# Altium footprint library Passive.PcbLib: 87 footprints (part 1 of 6)
Each footprint in its own frame and in the unit in brackets; x right, y up, seen from the top. Pads: shape width x height; smd on the part's side, far side on the other; paste and mask are expansions set on the pad; w line width, h text height; cw(c..) or ccw(c..) is an arc to the next point about the centre after c.
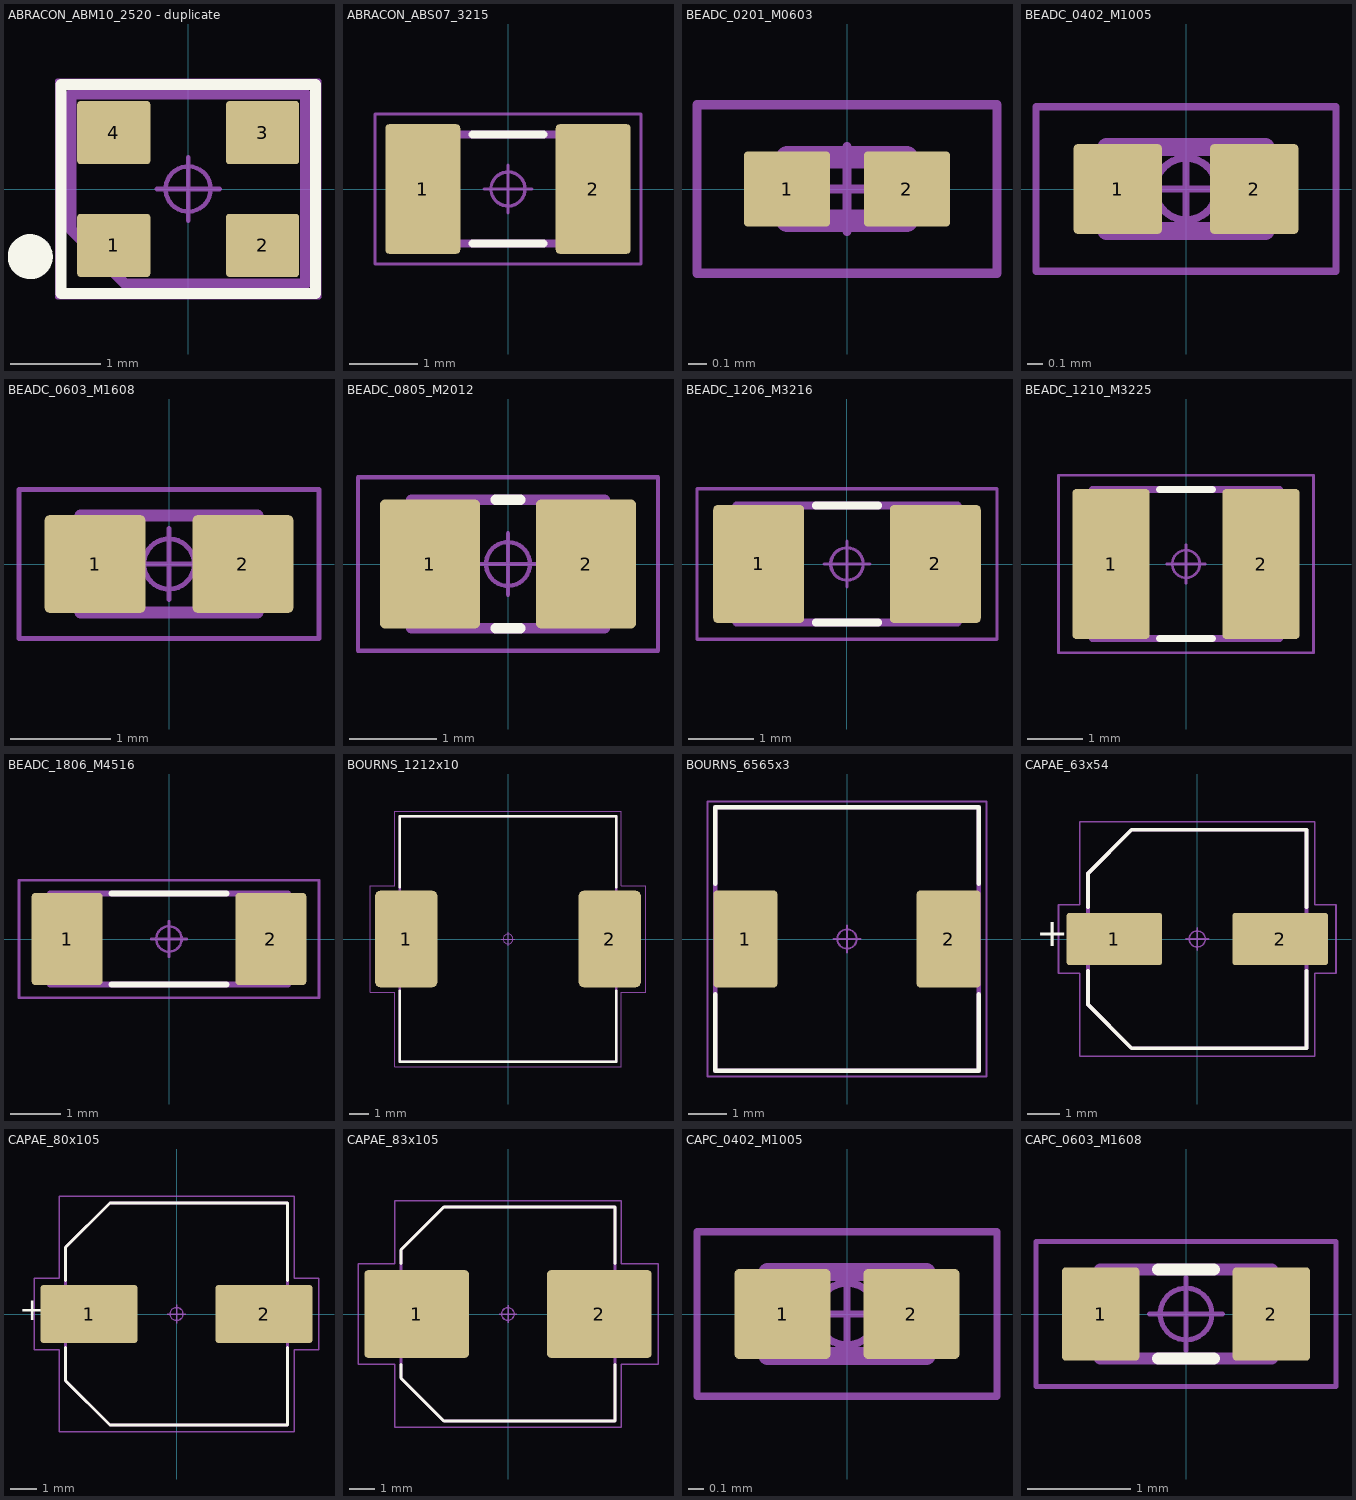
[diagram p0: the footprints below, top view; thin cyan lines are the x and y axes]

## ABRACON_ABM10_2520 - duplicate [mm] "Crystal, Dual Flat No-Lead (DFN 4 Pins), 1.65 mm pitch; 4 pin, 2.50 mm L X 2.00 mm W X 0.70 mm H body"
pads (4):
  rrect10% 0.81x0.7 smd: 1(-0.825,-0.625) 2(0.825,-0.625) 3(0.825,0.625) 4(-0.825,0.625)
Top Overlay:
  circle w0.25: c-1.75,-0.75 r0.125
  lines w0.12: -1.41,-1.16 1.41,-1.16 1.41,1.16 -1.41,1.16 -1.41,-1.16
Mechanical 11:
  lines w0.12: -1.3,-0.45 -1.3,1.05 1.3,1.05 1.3,-1.05 -0.7,-1.05 -1.3,-0.45
  text ".Designator" at -2.253,-0.226 h1
Mechanical 15:
  circle w0.05: c0,0 r0.25
  lines w0.05: -0.35,0 0.35,0 ; 0,-0.35 0,0.35 ; -1.45,-1.2 1.45,-1.2 1.45,1.2 -1.45,1.2 -1.45,-1.2
3D body "User Library-ABM10_Xtal.step": height 0.7, standoff -0.01, extent -1.3,-1.05 1.3,1.05

## ABRACON_ABS07_3215 [mm] "Crystal, Dual Flat No-Lead (DFN 2 Pin); 2 pin, 3.20 mm L X 1.50 mm W X 0.90 mm H body"
pads (2):
  rrect10% 1.1x1.9 smd: 1(-1.25,0) 2(1.25,0)
Top Overlay:
  lines w0.12: -0.52,-0.8 0.52,-0.8 ; -0.52,0.8 0.52,0.8
Mechanical 11:
  lines w0.12: -1.65,-0.8 -1.65,0.8 1.65,0.8 1.65,-0.8 -1.65,-0.8
  text ".Designator" at -2.253,-0.226 h1
Mechanical 15:
  circle w0.05: c0,0 r0.25
  lines w0.05: -0.35,0 0.35,0 ; 0,-0.35 0,0.35 ; -1.95,-1.1 -1.95,1.1 1.95,1.1 1.95,-1.1 -1.95,-1.1
3D body "ABRACON_ABS07.STEP": height 0.9, standoff 0, extent -1.65,-0.8 1.65,0.8

## BEADC_0201_M0603 [mm] "Ferrite Bead, Chip; 0.60 mm L X 0.30 mm W X 0.33 mm H body"
pads (2):
  rrect10% 0.46x0.4 smd: 1(-0.32,0) 2(0.32,0)
Mechanical 11:
  lines w0.12: -0.32,-0.17 0.32,-0.17 0.32,0.17 -0.32,0.17 -0.32,-0.17
Mechanical 15:
  circle w0.05: c0,0 r0.169
  lines w0.05: -0.225,0 0.225,0 ; 0,-0.225 0,0.225 ; -0.8,-0.45 0.8,-0.45 0.8,0.45 -0.8,0.45 -0.8,-0.45
3D body "BEADC_0201_M0603.STEP": height 0.33, standoff 0, extent -0.315,-0.165 0.315,0.165

## BEADC_0402_M1005 [mm] "Ferrite Bead, Chip; 1.00 mm L X 0.50 mm W X 0.55 mm H body"
pads (2):
  rrect10% 0.59x0.6 smd: 1(-0.455,0) 2(0.455,0)
Mechanical 11:
  lines w0.12: -0.53,-0.28 0.53,-0.28 0.53,0.28 -0.53,0.28 -0.53,-0.28
  text ".Designator" at -1.126,-0.113 h0.5
Mechanical 15:
  circle w0.05: c0,0 r0.206
  lines w0.05: -0.275,0 0.275,0 ; 0,-0.275 0,0.275 ; -1,-0.55 1,-0.55 1,0.55 -1,0.55 -1,-0.55
3D body "BEADC_0402_M1005.STEP": height 0.55, standoff 0, extent -0.525,-0.275 0.525,0.275

## BEADC_0603_M1608 [mm] "Ferrite Bead, Chip; 1.60 mm L X 0.80 mm W X 0.95 mm H body"
pads (2):
  rrect10% 1x0.97 smd: 1(-0.735,0) 2(0.735,0)
Mechanical 11:
  lines w0.12: -0.88,-0.48 0.88,-0.48 0.88,0.48 -0.88,0.48 -0.88,-0.48
  text ".Designator" at -2.253,-0.226 h1
Mechanical 15:
  circle w0.05: c0,0 r0.25
  lines w0.05: -0.35,0 0.35,0 ; 0,-0.35 0,0.35 ; -1.49,-0.74 1.49,-0.74 1.49,0.74 -1.49,0.74 -1.49,-0.74
3D body "BEADC_0603_M1608.STEP": height 0.95, standoff 0, extent -0.875,-0.475 0.875,0.475

## BEADC_0805_M2012 [mm] "Ferrite Bead, Chip; 2.00 mm L X 1.25 mm W X 1.45 mm H body"
pads (2):
  rrect10% 1.14x1.47 smd: 1(-0.89,0) 2(0.89,0)
Top Overlay:
  lines w0.12: -0.14,-0.73 0.14,-0.73 ; -0.14,0.73 0.14,0.73
Mechanical 11:
  lines w0.12: -1.1,-0.73 1.1,-0.73 1.1,0.73 -1.1,0.73 -1.1,-0.73
  text ".Designator" at -2.253,-0.226 h1
Mechanical 15:
  circle w0.05: c0,0 r0.25
  lines w0.05: -0.35,0 0.35,0 ; 0,-0.35 0,0.35 ; -1.71,-0.99 1.71,-0.99 1.71,0.99 -1.71,0.99 -1.71,-0.99
3D body "BEADC_0805_M2012.STEP": height 1.45, standoff 0, extent -1.1,-0.725 1.1,0.725

## BEADC_1206_M3216 [mm] "Ferrite Bead, Chip; 3.20 mm L X 1.60 mm W X 1.80 mm H body"
pads (2):
  rrect10% 1.4x1.82 smd: 1(-1.36,0) 2(1.36,0)
Top Overlay:
  lines w0.12: -0.48,-0.9 0.48,-0.9 ; -0.48,0.9 0.48,0.9
Mechanical 11:
  lines w0.12: -1.7,-0.9 -1.7,0.9 1.7,0.9 1.7,-0.9 -1.7,-0.9
  text ".Designator" at -2.253,-0.226 h1
Mechanical 15:
  circle w0.05: c0,0 r0.25
  lines w0.05: -0.35,0 0.35,0 ; 0,-0.35 0,0.35 ; -2.31,-1.16 -2.31,1.16 2.31,1.16 2.31,-1.16 -2.31,-1.16
3D body "BEADC_1206_M3216.STEP": height 1.8, standoff 0, extent -1.7,-0.9 1.7,0.9

## BEADC_1210_M3225 [mm] "Ferrite Bead, Chip; 3.20 mm L X 2.50 mm W X 2.20 mm H body"
pads (2):
  rrect10% 1.4x2.72 smd: 1(-1.36,0) 2(1.36,0)
Top Overlay:
  lines w0.12: -0.48,-1.35 0.48,-1.35 ; -0.48,1.35 0.48,1.35
Mechanical 11:
  lines w0.12: -1.7,-1.35 1.7,-1.35 1.7,1.35 -1.7,1.35 -1.7,-1.35
  text ".Designator" at -4.506,-0.452 h2
Mechanical 15:
  circle w0.05: c0,0 r0.25
  lines w0.05: -0.35,0 0.35,0 ; 0,-0.35 0,0.35 ; -2.31,-1.61 2.31,-1.61 2.31,1.61 -2.31,1.61 -2.31,-1.61
3D body "BEADC_1210_M3225.STEP": height 2.2, standoff 0, extent -1.7,-1.35 1.7,1.35

## BEADC_1806_M4516 [mm] "Ferrite Bead, Chip; 4.50 mm L X 1.60 mm W X 1.80 mm H body"
pads (2):
  rrect10% 1.4x1.82 smd: 1(-2.01,0) 2(2.01,0)
Top Overlay:
  lines w0.12: -1.13,-0.9 1.13,-0.9 ; -1.13,0.9 1.13,0.9
Mechanical 11:
  lines w0.12: -2.35,-0.9 2.35,-0.9 2.35,0.9 -2.35,0.9 -2.35,-0.9
  text ".Designator" at -2.253,-0.226 h1
Mechanical 15:
  circle w0.05: c0,0 r0.25
  lines w0.05: -0.35,0 0.35,0 ; 0,-0.35 0,0.35 ; -2.96,-1.16 2.96,-1.16 2.96,1.16 -2.96,1.16 -2.96,-1.16
3D body "BEADC_1806_M4516.STEP": height 1.8, standoff 0, extent -2.35,-0.9 2.35,0.9

## BOURNS_1212x10 [mm] "Inductor, Molded Body; 12.00 mm L X 12.00 mm W X 10.00 mm H body"
pads (2):
  rrect16% 3.16x4.91 smd: 1(-5.175,0) 2(5.175,0)
Top Overlay:
  lines w0.12: -5.5,-2.635 -5.5,-6.25 5.5,-6.25 5.5,-2.635 ; -5.5,2.635 -5.5,6.25 5.5,6.25 5.5,2.635
Mechanical 11:
  lines w0.12: -5.5,-6.25 -5.5,6.25 5.5,6.25 5.5,-6.25 -5.5,-6.25
  text ".Designator" at -6.759,-0.678 h3
Mechanical 15:
  circle w0.05: c0,0 r0.25
  lines w0.05: -0.35,0 0.35,0 ; 0,-0.35 0,0.35 ; -7.005,-2.705 -7.005,2.705 -5.75,2.705 -5.75,6.5 5.75,6.5 5.75,2.705 7.005,2.705 7.005,-2.705 5.75,-2.705 5.75,-6.5 -5.75,-6.5 -5.75,-2.705 -7.005,-2.705
3D body "srr1210.stp": height 10, standoff 0, extent -6,-6 6,6

## BOURNS_6565x3 [mm] "Inductor, Dual Flat No-Lead (DFN 2 Pin); 2 pin, 6.50 mm L X 6.50 mm W X 3.40 mm H body"
pads (2):
  rrect10% 1.65x2.5 smd: 1(-2.625,0) 2(2.625,0)
Top Overlay:
  lines w0.12: -3.4,-1.43 -3.4,-3.4 3.4,-3.4 3.4,-1.43 ; -3.4,1.43 -3.4,3.4 3.4,3.4 3.4,1.43
Mechanical 11:
  lines w0.12: -3.4,-3.4 -3.4,3.4 3.4,3.4 3.4,-3.4 -3.4,-3.4
  text ".Designator" at -2.253,-0.226 h1
Mechanical 15:
  circle w0.05: c0,0 r0.25
  lines w0.05: -0.35,0 0.35,0 ; 0,-0.35 0,0.35 ; -3.6,-3.55 -3.6,3.55 3.6,3.55 3.6,-3.55 -3.6,-3.55
3D body "70064.stp": height 3.3, standoff 0, extent -3.25,-3.25 3.25,3.25

## CAPAE_63x54 [mm] "Capacitor, Aluminum Electrolytic; 6.60 mm L X 6.60 mm W X 5.70 mm H body"
pads (2):
  rrect10% 2.97x1.62 smd: 1(-2.58,0) 2(2.58,0)
Top Overlay:
  lines w0.12: -3.4,-0.99 -3.4,-2.04 -2.04,-3.4 3.4,-3.4 3.4,-0.99 ; -3.4,0.99 -3.4,2.04 -2.04,3.4 3.4,3.4 3.4,0.99
  text "+" at -5.016,-0.522 h1.5
Mechanical 11:
  lines w0.12: -3.4,-2.04 -2.04,-3.4 3.4,-3.4 3.4,3.4 -2.04,3.4 -3.4,2.04 -3.4,-2.04
  text ".Designator" at -2.253,-0.226 h1
Mechanical 15:
  circle w0.05: c0,0 r0.25
  lines w0.05: -0.35,0 0.35,0 ; 0,-0.35 0,0.35 ; -4.315,-1.06 -4.315,1.06 -3.65,1.06 -3.65,3.65 3.65,3.65 3.65,1.06 4.315,1.06 4.315,-1.06 3.65,-1.06 3.65,-3.65 -3.65,-3.65 -3.65,-1.06 -4.315,-1.06
3D body "CAPAE_63x54.STEP": height 5.7, standoff 0, extent -3.8,-3.4 3.8,3.4

## CAPAE_80x105 [mm] "Capacitor, Aluminum Electrolytic; 8.30 mm L X 8.30 mm W X 11.00 mm H body"
pads (2):
  rrect10% 3.71x2.22 smd: 1(-3.35,0) 2(3.35,0)
Top Overlay:
  lines w0.12: -4.25,-1.29 -4.25,-2.55 -2.55,-4.25 4.25,-4.25 4.25,-1.29 ; -4.25,1.29 -4.25,2.55 -2.55,4.25 4.25,4.25 4.25,1.29
  text "+" at -6.032,-0.522 h1.5
Mechanical 11:
  lines w0.12: -4.25,-2.55 -2.55,-4.25 4.25,-4.25 4.25,4.25 -2.55,4.25 -4.25,2.55 -4.25,-2.55
  text ".Designator" at -2.253,-0.226 h1
Mechanical 15:
  circle w0.05: c0,0 r0.25
  lines w0.05: -0.35,0 0.35,0 ; 0,-0.35 0,0.35 ; -5.455,-1.36 -5.455,1.36 -4.5,1.36 -4.5,4.5 4.5,4.5 4.5,1.36 5.455,1.36 5.455,-1.36 4.5,-1.36 4.5,-4.5 -4.5,-4.5 -4.5,-1.36 -5.455,-1.36
3D body "CAPAE_80x105.STEP": height 11, standoff 0, extent -4.75,-4.25 4.75,4.25

## CAPAE_83x105 [mm] "Capacitor, Aluminum Electrolytic; 8.30 mm L X 8.30 mm W X 10.50 mm H body"
pads (2):
  rrect10% 4.16x3.5 smd: 1(-3.63,0) 2(3.63,0)
Top Overlay:
  lines w0.12: -4.25,-2 -4.25,-2.55 -2.55,-4.25 4.25,-4.25 4.25,-2 ; -4.25,2 -4.25,2.55 -2.55,4.25 4.25,4.25 4.25,2
Mechanical 11:
  lines w0.12: -4.25,-2.55 -4.25,2.55 -2.55,4.25 4.25,4.25 4.25,-4.25 -2.55,-4.25 -4.25,-2.55
  text ".Designator" at -4.506,-0.452 h2
Mechanical 15:
  circle w0.05: c0,0 r0.25
  lines w0.05: -0.35,0 0.35,0 ; 0,-0.35 0,0.35 ; -5.96,-2 -4.5,-2 -4.5,-4.5 4.5,-4.5 4.5,-2 5.96,-2 5.96,2 4.5,2 4.5,4.5 -4.5,4.5 -4.5,2 -5.96,2 -5.96,-2
3D body "CAPAE_83x105.STEP": height 10.5, standoff 0, extent -5.075,-4.25 5.075,4.25

## CAPC_0402_M1005 [mm] "Capacitor, Chip; 1.00 mm L X 0.50 mm W X 0.55 mm H body"
pads (2):
  rrect10% 0.64x0.6 smd: 1(-0.43,0) 2(0.43,0)
Mechanical 11:
  lines w0.12: -0.53,-0.28 -0.53,0.28 0.53,0.28 0.53,-0.28 -0.53,-0.28
  text ".Designator" at -1.822,-0.223 h1
Mechanical 15:
  circle w0.05: c0,0 r0.206
  lines w0.05: -0.275,0 0.275,0 ; 0,-0.275 0,0.275 ; -1,-0.55 -1,0.55 1,0.55 1,-0.55 -1,-0.55
3D body "CAPC_0402_M1005.STEP": height 0.55, standoff 0, extent -0.5,-0.25 0.5,0.25

## CAPC_0603_M1608 [mm] "Capacitor, Chip; 1.60 mm L X 0.80 mm W X 0.85 mm H body"
pads (2):
  rrect10% 0.75x0.9 smd: 1(-0.825,0) 2(0.825,0)
Top Overlay:
  lines w0.12: -0.27,-0.43 0.27,-0.43 ; -0.27,0.43 0.27,0.43
Mechanical 11:
  lines w0.12: -0.83,-0.43 -0.83,0.43 0.83,0.43 0.83,-0.43 -0.83,-0.43
  text ".Designator" at -1.822,-0.223 h1
Mechanical 15:
  circle w0.05: c0,0 r0.25
  lines w0.05: -0.35,0 0.35,0 ; 0,-0.35 0,0.35 ; -1.45,-0.7 -1.45,0.7 1.45,0.7 1.45,-0.7 -1.45,-0.7
3D body "CAPC_0603_M1608.STEP": height 0.85, standoff 0, extent -0.825,-0.425 0.825,0.425